# EAGLE library part 66201421122 (library Wuerth_Elektronik_eiCan_08_Micro_Power_Connectors)
WR-MPC3 3.00mm Male Dual Row Vertical Header, 14 Pins
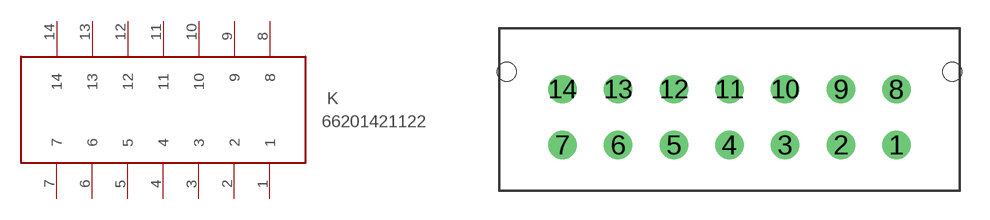
[diagram p4: symbol with the pads of 66201421122; footprint 66201421122]

Designator prefix K

## 66201421122  [66201421122]
1  1
2  2
3  3
4  4
5  5
6  6
7  7
8  8
9  9
10  10
11  11
12  12
13  13
14  14

## Footprint 66201421122 (pad centres in mm)
WR-MPC3-3.00mm Male Dual Row Vertical Header,14 pins
drill 1.02 round: 1 0,-1.5; 2 -3,-1.5; 3 -6,-1.5; 4 -9,-1.5; 5 -12,-1.5; 6 -15,-1.5; 7 -18,-1.5; 8 0,1.5; 9 -3,1.5; 10 -6,1.5; 11 -9,1.5; 12 -12,1.5; 13 -15,1.5; 14 -18,1.5
hole 1.02 at -21,2.44
hole 1.02 at 3,2.44